# Altium schematic symbol library Sensor.SchLib: 4 symbols
Pins are listed as number, name and electrical type; pins without a type are passive.

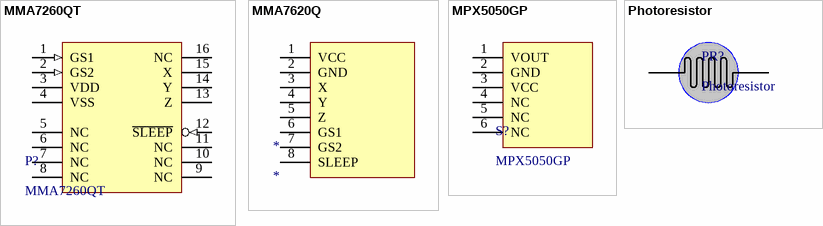
[diagram p0: symbols MMA7260QT to Photoresistor]

## MMA7260QT
designator P?
16 Pins QFN
footprint QFN16 (QFN 16 LEAD 6x6mm)
pins: 1 GS1 (in), 2 GS2 (in), 3 VDD (power), 4 VSS (power), 5 NC, 6 NC, 7 NC, 8 NC, 9 NC, 10 NC, 11 NC, 12 ~{SLEEP} (in), 13 Z, 14 Y, 15 X, 16 NC

## MMA7620Q
designator *
footprint MMA7260Q (Connector; Header; 8 Position)
pins: 1 VCC, 2 GND, 3 X, 4 Y, 5 Z, 6 GS1, 7 GS2, 8 SLEEP

## MPX5050GP
designator S?
50kPa Air Pressure Sensor
footprint HDR1X6 (Connector; Header; 6 Position)
pins: 1 VOUT, 2 GND, 3 VCC, 4 NC, 5 NC, 6 NC

## Photoresistor
designator PR?
Creator: Bien Nguyen
footprint Photoresistor
pins: 1, 2